# EAGLE library part 74LVC07APW (library 74LVC07APW)
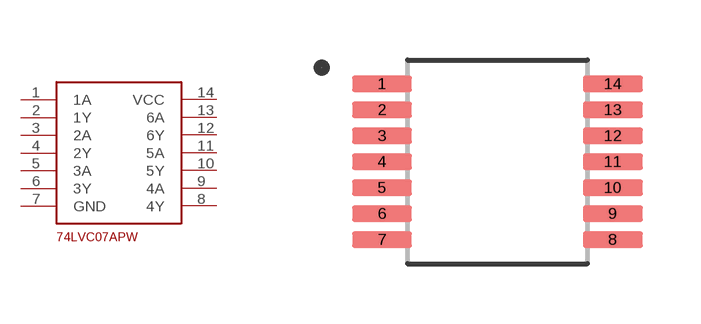
[diagram p0: symbol with the pads of TSSOP-14; footprint TSSOP-14]

Designator prefix -

## 74LVC07APW  [TSSOP-14]
1  1A
2  1Y
3  2A
4  2Y
5  3A
6  3Y
7  GND
8  4Y
9  4A
10  5Y
11  5A
12  6Y
13  6A
14  VCC

## Footprint TSSOP-14 (pad centres in mm)
smd 1.5 x 0.41: 1 -2.885,1.95; 2 -2.885,1.3; 3 -2.885,0.65; 4 -2.885,0; 5 -2.885,-0.65; 6 -2.885,-1.3; 7 -2.885,-1.95; 8 2.885,-1.95; 9 2.885,-1.3; 10 2.885,-0.65; 11 2.885,0; 12 2.885,0.65; 13 2.885,1.3; 14 2.885,1.95